# EAGLE library part MSP430G2231SOP (library Rohit_Libs)
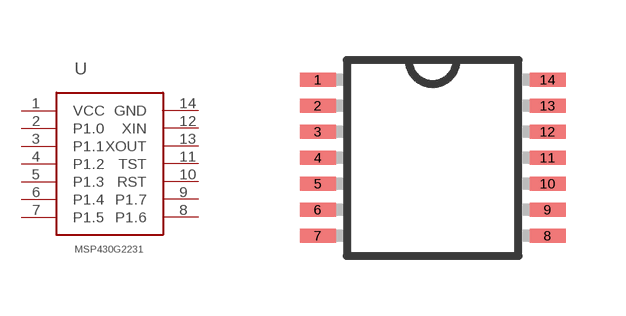
[diagram p5: symbol with the pads of G2231TSSOP; footprint G2231TSSOP]

Designator prefix -

## MSP430G2231SOP  [G2231TSSOP]
1  VCC  pwr
2  P1.0
3  P1.1
4  P1.2
5  P1.3
6  P1.4
7  P1.5
8  P1.6
9  P1.7
10  RST
11  TST
12  XIN
13  XOUT
14  GND  pwr

## Footprint G2231TSSOP (pad centres in mm)
smd 0.9 x 0.35: 1 -2.875,1.95; 2 -2.875,1.3; 3 -2.875,0.65; 4 -2.875,0; 5 -2.875,-0.65; 6 -2.875,-1.3; 7 -2.875,-1.95; 8 2.875,-1.95; 9 2.875,-1.3; 10 2.875,-0.65; 11 2.875,0; 12 2.875,0.65; 13 2.875,1.3; 14 2.875,1.95